# Altium footprint library BNC_Conn_PCB.PcbLib: 1 footprints
Each footprint in its own frame and in the unit in brackets; x right, y up, seen from the top. Pads: shape width x height; smd on the part's side, far side on the other; paste and mask are expansions set on the pad; w line width, h text height; cw(c..) or ccw(c..) is an arc to the next point about the centre after c.
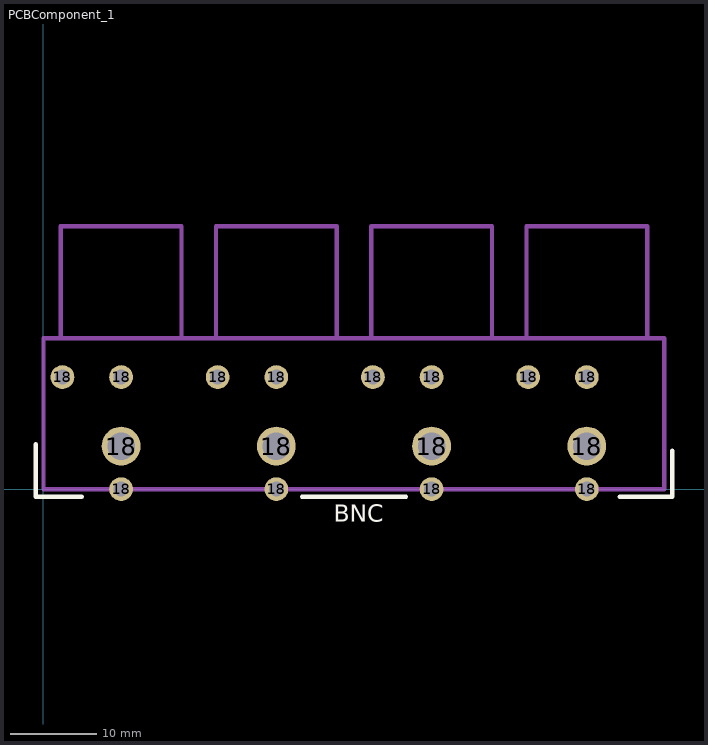
[diagram p0: the footprint, top view; thin cyan lines are the x and y axes]

## PCBComponent_1 [mm]
pads (16):
  round 2.75 hole 1.75: 18(2.2,13) 18(9,0) 18(9,13) 18(20.2,13) 18(27,0) 18(27,13) 18(38.2,13) 18(45,0) 18(45,13) 18(56.2,13) 18(63,0) 18(63,13)
  round 4.5 hole 3.2: 18(9,5) 18(27,5) 18(45,5) 18(63,5)
Top Overlay:
  lines w0.508: -0.889,5.207 -0.889,-0.889 4.445,-0.889 ; 29.972,-0.889 42.037,-0.889 ; 66.802,-0.889 72.898,-0.889 72.898,4.445
  text "BNC" at 33.674,-3.791 h2
Mechanical 1:
  lines w0.508: 1.968,30.5 15.968,30.5 ; 2,17.5 2,30.5 ; 16,17.5 16,30.5 ; 20,17.5 20,30.5 ; 20.002,30.5 34.002,30.5 ; 34,17.5 34,30.5 ; 38,17.5 38,30.48 ; 38,30.5 52,30.5 ; 52,17.5 52,30.48 ; 56,17.5 56,30.5 70,30.5 70,17.5 ; 0,0 0,17.5 72,17.5 72,0 0,0